# Altium schematic symbol library Fuse_Board_Symbols_V2.SchLib: 7 symbols
Pins are listed as number, name and electrical type; pins without a type are passive.

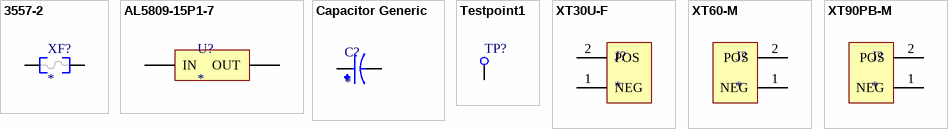
[diagram p0: symbols 3557-2 to XT90PB-M]

## 3557-2
designator XF?
Fuse Block 30A 500V 1 Circuit Blade Through Hole; MF: Keystone Electronics; MP: 3557-2; Package: Nonstandard Keystone; Value: *; Price: None; SnapEDA_Link: https://www.snapeda.com/parts/3557-2/Keystone%20Electronics/view-part/278060/?ref=snap; Availability: Unavailable
footprint FUSE_3557-2
pins: 1, 2

## AL5809-15P1-7
designator U?
LED Driver IC 1 Output Linear - PWM Dimming 15mA PowerDI™ 123
footprint POWERDI_123 (POWERDI-123, 2-Leads, Body 1.78x3.70mm)
pins: 1 IN, 2 OUT

## Capacitor Generic
designator C?
Cap Radial Aluminum Cylindrical Can 3.5mm, 5mm; MF: Panasonic; MP: ECA-2WHG220; Package: RADIAL-2 Panasonic; Value: *; Availability: In Stock; Check_prices: https://www.snapeda.com/parts/ECA-2WHG220/Panasonic/view-part/390097/?ref=eda; Price: None; SnapEDA_Link: https://www.snapeda.com/parts/ECA-2WHG220/Panasonic/view-part/390097/?ref=snap
footprint RADIAL_CAP_10MM
pins: 1, 2

## Testpoint1
designator TP?  (value not drawn)  (no BOM)
Testpoint 40mil pad
footprint TESTPOINT40 (Footprint not found)
pins: 1

## XT30U-F
designator J?
Plug; DC supply; XT30; female; PIN: 2; for cable; soldering; 15A; MP: XT60-M; MF: AMASS; Price: None; Package: Package Analog Devices; Value: *; Availability: Unavailable; SnapEDA_Link: https://www.snapeda.com/parts/XT60-M/AMASS/view-part/2883912/?ref=snap
footprint AMASS_XT30-M (Footprint not found)
pins: 1 NEG, 2 POS

## XT60-M
designator J?
Plug; DC supply; XT60; male; PIN: 2; for cable; soldered; 30A; 500V; MP: XT60-M; MF: AMASS; Price: None; Package: Package Analog Devices; Value: *; Availability: Unavailable; SnapEDA_Link: https://www.snapeda.com/parts/XT60-M/AMASS/view-part/2883912/?ref=snap
footprint AMASS_XT60-M (Footprint not found)
pins: 1 NEG, 2 POS

## XT90PB-M
designator J?
Plug; DC supply; XT90; male; PIN: 2; for cable; soldered; 30A; 500V; MP: XT60-M; MF: AMASS; Price: None; Package: Package Analog Devices; Value: *; Availability: Unavailable; SnapEDA_Link: https://www.snapeda.com/parts/XT60-M/AMASS/view-part/2883912/?ref=snap
footprint XT90PB-M
pins: 1 NEG, 2 POS